# Altium footprint library UmbilicalConnectors.PcbLib: 33 footprints (part 1 of 3)
Each footprint in its own frame and in the unit in brackets; x right, y up, seen from the top. Pads: shape width x height; smd on the part's side, far side on the other; paste and mask are expansions set on the pad; w line width, h text height; cw(c..) or ccw(c..) is an arc to the next point about the centre after c.
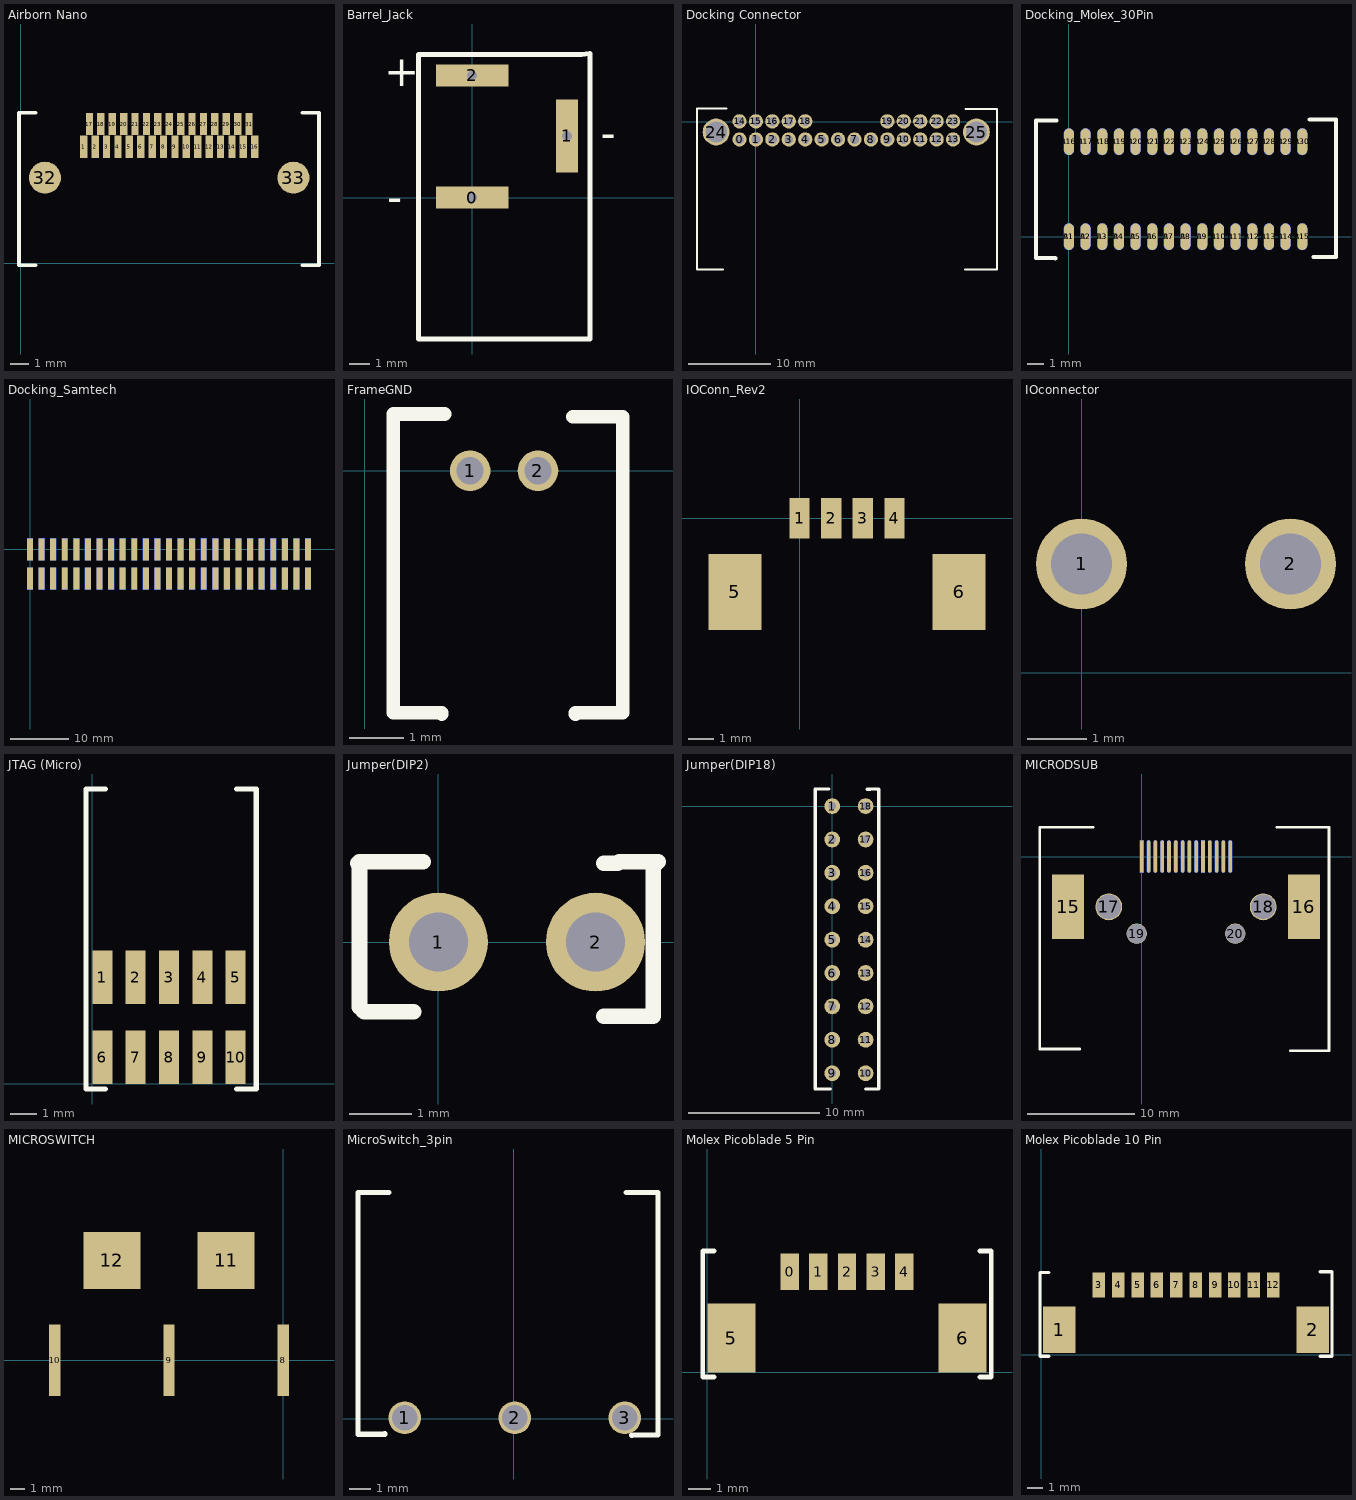
[diagram p0: the footprints below, top view; thin cyan lines are the x and y axes]

## Airborn Nano [mil] "31 Pin connector used for XACT"
height 125
pads (33):
  rect 16x49 smd: 1(138,255.5) 2(163,255.5) 3(188,255.5) 4(213,255.5) 5(238,255.5) 6(263,255.5) 7(288,255.5) 8(313,255.5) 9(338,255.5) 10(363,255.5) 11(388,255.5) 12(413,255.5) 13(438,255.5) 14(463,255.5) 15(488,255.5) 16(513,255.5) 17(150.5,305.5) 18(175.5,305.5) 19(200.5,305.5) 20(225.5,305.5) 21(250.5,305.5) 22(275.5,305.5) 23(300.5,305.5) 24(325.5,305.5) 25(350.5,305.5) 26(375.5,305.5) 27(400.5,305.5) 28(425.5,305.5) 29(450.5,305.5) 30(475.5,305.5) 31(500.5,305.5)
  round 70 smd: 32(53,188) 33(598,188)
Top Overlay:
  lines w7.87: 33,-4 -4,-4 -4,330 33,330 ; 617,-4 654,-4 654,330 617,330
3D body "nk-2d2-031-225-th00.stp": height 137.5, standoff -2.5, extent 0,0 650,326

## Barrel_Jack [mm] "KLDX-0202-B"
pads (3):
  rect 3.6x1.1 hole 0.5 square: 0(0,0) 2(0,6.05)
  rect 1.1x3.6 hole 0.5 square: 1(4.7,3.05)
Top Overlay:
  lines w0.254: -2.65,-7 -2.65,7.075 5.4,7.075 5.825,7.125 5.825,-7 -2.65,-7
  text "-" at -4.2,-0.725 h1.52
  text "-" at 6.375,2.45 h1.52
  text "+" at -4.35,5.5 h1.52

## Docking Connector [mm] "Part Number: 34826-0240"
pads (26):
  round 1.74 hole 1.08 mask+0.076: 0(-1.975,-2.175) 1(0.025,-2.175) 2(2.025,-2.175) 3(4.025,-2.175) 4(6.025,-2.175) 5(8.025,-2.175) 6(10.025,-2.175) 7(12.025,-2.175) 8(14.025,-2.175) 9(16.025,-2.175) 10(18.025,-2.175) 11(20.025,-2.175) 12(22.025,-2.175) 13(24.025,-2.175) 14(-1.975,0.025) 15(0.025,0.025) 16(2.025,0.025) 17(4.025,0.025) 18(6.025,0.025) 19(16.025,0.025) 20(18.025,0.025) 21(20.025,0.025) 22(22.025,0.025) 23(24.025,0.025)
  round 3.26 hole 2.6 mask+0.076: 24(-4.825,-1.275) 25(26.875,-1.275)
Top Overlay:
  lines w0.254: -4,-18.025 -7.15,-18.025 -7.15,1.6 -3.575,1.6 ; 25.475,-18 29.375,-18 29.375,1.525 25.55,1.525
3D body "348260240.stp": height 4.84, standoff -11.05, extent -6.217,-18 28.413,1.5

## Docking_Molex_30Pin [mm] "501571-3007"
pads (60):
  oval 0.6x1.6 smd: A1(0,0) A2(1,0) A3(2,0) A4(3,0) A5(4,0) A6(5,0) A7(6,0) A8(7,0) A9(8,0) A10(9,0) A11(10,0) A12(11,0) A13(12,0) A14(13,0) A15(14,0) A16(0,5.7) A17(1,5.7) A18(2,5.7) A19(3,5.7) A20(4,5.7) A21(5,5.7) A22(6,5.7) A23(7,5.7) A24(8,5.7) A25(9,5.7) A26(10,5.7) A27(11,5.7) A28(12,5.7) A29(13,5.7) A30(14,5.7)
  oval 0.6x1.6 smd far side: B1(0,0) B2(1,0) B3(2,0) B4(3,0) B5(4,0) B6(5,0) B7(6,0) B8(7,0) B9(8,0) B10(9,0) B11(10,0) B12(11,0) B13(12,0) B14(13,0) B15(14,0) B16(0,5.7) B17(1,5.7) B18(2,5.7) B19(3,5.7) B20(4,5.7) B21(5,5.7) B22(6,5.7) B23(7,5.7) B24(8,5.7) B25(9,5.7) B26(10,5.7) B27(11,5.7) B28(12,5.7) B29(13,5.7) B30(14,5.7)
Top Overlay:
  lines w0.254: -0.825,-1.3 -0.825,-1.27 -1.975,-1.27 -1.975,6.98 -0.75,6.98 ; 14.45,7.025 16.025,7.025 16.025,6.98 16.025,-1.225 14.675,-1.225
3D body "5015713007.stp": height 2.95, standoff -3.55, extent -1.975,-1.27 16.025,6.98

## Docking_Samtech [mm] "T2M-125-01-L-D-SM"
pads (100):
  rect 1.02x3.8 smd: A1(0,-5.07) A2(2,-5.07) A3(4,-5.07) A4(6,-5.07) A5(8,-5.07) A6(10,-5.07) A7(12,-5.07) A8(14,-5.07) A9(16,-5.07) A10(18,-5.07) A11(20,-5.07) A12(22,-5.07) A13(24,-5.07) A14(26,-5.07) A15(28,-5.07) A16(30,-5.07) A17(32,-5.07) A18(34,-5.07) A19(36,-5.07) A20(38,-5.07) A21(40,-5.07) A22(42,-5.07) A23(44,-5.07) A24(46,-5.07) A25(48,-5.07) A26(0,0) A27(2,0) A28(4,0) A29(6,0) A30(8,0) A31(10,0) A32(12,0) A33(14,0) A34(16,0) A35(18,0) A36(20,0) A37(22,0) A38(24,0) A39(26,0) A40(28,0) A41(30,0) A42(32,0) A43(34,0) A44(36,0) A45(38,0) A46(40,0) A47(42,0) A48(44,0) A49(46,0) A50(48,0)
  rect 1.02x3.8 smd far side: B1(0,-5.07) B2(2,-5.07) B3(4,-5.07) B4(6,-5.07) B5(8,-5.07) B6(10,-5.07) B7(12,-5.07) B8(14,-5.07) B9(16,-5.07) B10(18,-5.07) B11(20,-5.07) B12(22,-5.07) B13(24,-5.07) B14(26,-5.07) B15(28,-5.07) B16(30,-5.07) B17(32,-5.07) B18(34,-5.07) B19(36,-5.07) B20(38,-5.07) B21(40,-5.07) B22(42,-5.07) B23(44,-5.07) B24(46,-5.07) B25(48,-5.07) B26(0,0) B27(2,0) B28(4,0) B29(6,0) B30(8,0) B31(10,0) B32(12,0) B33(14,0) B34(16,0) B35(18,0) B36(20,0) B37(22,0) B38(24,0) B39(26,0) B40(28,0) B41(30,0) B42(32,0) B43(34,0) B44(36,0) B45(38,0) B46(40,0) B47(42,0) B48(44,0) B49(46,0) B50(48,0)

## FrameGND [mm] "Molex Picoblade Part Number: 53048-0210"
pads (2):
  round 0.75 hole 0.5: 1(1.95,0) 2(3.205,0)
Top Overlay:
  lines w0.254: 1.425,-4.5 1.425,-4.475 0.525,-4.475 0.525,1.05 1.475,1.05 ; 3.85,1 4.775,1 4.775,-4.475 3.9,-4.475 3.9,-4.5
3D body "530480210.stp": height 4.05, standoff -1.75, extent 0.525,-4.475 4.775,1.025

## IOConn_Rev2 [mm] "Molex 4 Pin Picoblade. Part # 53261-0471"
pads (6):
  rect 0.8x1.6 all layers, no hole: 1(0,0) 2(1.25,0) 3(2.5,0) 4(3.75,0)
  rect 2.1x3 all layers, no hole: 5(-2.55,-2.9) 6(6.3,-2.9)
3D body "532610471.stp": height 1.7, standoff -1.7, extent -3.225,-4.475 6.925,0.725

## IOconnector [mm] "Part Number: 172310-1102"
pads (2):
  round 1.524 hole 1.02: 1(0,1.825) 2(3.5,1.825)
via 1.75,-6.085 diameter 3.15 hole 3.05
3D body "1723101102.stp": height 10.25, standoff -5.38, extent -2.75,-8.56 6.25,3.6

## JTAG (Micro) [mil] "Compatible with the ARM Cortex-M standard pinout"
pads (10):
  rect 30x80 smd: 1(15,160) 2(65,160) 3(115,160) 4(165,160) 5(215,160) 6(15,40) 7(65,40) 8(115,40) 9(165,40) 10(215,40)
Top Overlay:
  lines w7.87: 19.68,-7.87 -9.84,-7.87 -9.84,442.91 19.68,442.91 ; 216.54,-7.87 246.06,-7.87 246.06,442.91 216.54,442.91
3D body "Samtec-FTSH-105-01-L-DH.step": height 134.5, standoff -0.5, extent -10,10 240,439

## Jumper(DIP2) [mm] "S1012E-02-ND (Pin), 3M9580-ND (Jumper)"
pads (2):
  round 1.6 hole 0.95: 1(0,0) 2(2.54,0)
Top Overlay:
  lines w0.254: -1.3,1.275 -1.275,1.3 ; -0.4,-1.125 -1.2,-1.125 -1.275,-1.05 -1.275,1.3 ; -0.25,1.3 -1.275,1.3 ; 2.675,-1.2 3.475,-1.2 3.475,1.225 3.55,1.3 2.925,1.3 2.9,1.275 2.675,1.275

## Jumper(DIP18) [mm] "S1012E-02-ND (Pin), 3M9580-ND (Jumper)"
pads (18):
  round 1.2 hole 0.6: 1(0,0) 2(0,-2.54) 3(0,-5.08) 4(0,-7.62) 5(0,-10.16) 6(0,-12.7) 7(0,-15.24) 8(0,-17.78) 9(0,-20.32) 10(2.54,-20.32) 11(2.54,-17.78) 12(2.54,-15.24) 13(2.54,-12.7) 14(2.54,-10.16) 15(2.54,-7.62) 16(2.54,-5.08) 17(2.54,-2.54) 18(2.54,0)
Top Overlay:
  lines w0.254: -0.25,1.3 -1.275,1.3 -1.3,1.275 -1.3,-21.5 -1.275,-21.525 -0.125,-21.525 ; 2.55,-21.525 3.55,-21.525 3.55,1.3 ; 2.675,1.275 2.9,1.275 2.925,1.3 3.55,1.3 ; 3.475,1.225 3.55,1.3

## MICRODSUB [mm] "12214-8250-00FR"
pads (34):
  rect 0.335x3 smd: 1(0,0) 10(5.715,0)
  rect 0.335x3 smd far side: 1(0,0) 10(5.715,0)
  oval 0.335x3 smd: 2(0.635,0) 3(1.27,0) 4(1.905,0) 5(2.54,0) 6(3.175,0) 7(3.81,0) 8(4.445,0) 9(5.08,0) 11(6.35,0) 12(6.985,0) 13(7.62,0) 14(8.255,0)
  oval 0.335x3 smd far side: 2(0.635,0) 3(1.27,0) 4(1.905,0) 5(2.54,0) 6(3.175,0) 7(3.81,0) 8(4.445,0) 9(5.08,0) 11(6.35,0) 12(6.985,0) 13(7.62,0) 14(8.255,0)
  rect 3x6 all layers, no hole mask+0.076: 15(-6.873,-4.7) 16(15.128,-4.7)
  round 2.5 hole 2.3 mask+0.076: 17(-3.073,-4.7) 18(11.328,-4.7)
  round 1.9 hole 1.8 mask+0.076: 19(-0.473,-7.2) 20(8.728,-7.2)
Top Overlay:
  lines w0.254: -5.8,-17.975 -9.525,-17.975 -9.525,2.725 -4.525,2.725 ; 12.6,2.725 17.475,2.725 17.475,-18.125 13.85,-18.125
3D body "12214-8250-00FR.stp": height 0.6, standoff -5, extent -7.625,-16.125 15.775,2.175

## MICROSWITCH [mm] "Arbitrary microswitch footprint placeholder. Must be updated with choice of microswitch"
pads (5):
  rect 0.8x5 smd: 8(0,0) 9(-8,0) 10(-16,0)
  rect 4x4 smd: 11(-4,7) 12(-12,7)

## MicroSwitch_3pin [mm] "Omron Electronics Inc-EMC Div D2FS-FL-N-A1"
pads (3):
  round 1.524 hole 1.2: 1(-5.08,0.05) 2(0.05,0.05) 3(5.18,0.05)
Top Overlay:
  lines w0.254: -6,-0.7 -6,-0.725 -7.255,-0.725 -7.255,10.55 -5.825,10.55 ; 5.25,10.55 6.725,10.55 6.725,-0.75 5.5,-0.75 5.5,-0.775
3D body "D2FS_FL_N_A1.step": height 0, standoff -8.9, extent -7.255,-0.75 6.725,10.55

## Molex Picoblade 5 Pin [mm] "Molex Picoblade Header, SMT, Right Angle  53261-0571"
height 3.4
pads (7):
  rect 0.8x1.6 smd: 0(3.6,4.4) 1(4.85,4.4) 2(6.1,4.4) 3(7.35,4.4) 4(8.6,4.4)
  rect 2.1x3 smd: 5(1.05,1.5) 6(11.15,1.5)
Top Overlay:
  lines w0.2: 0.3,-0.2 -0.2,-0.2 -0.2,5.3 0.3,5.3 ; 11.9,-0.2 12.4,-0.2 12.4,5.3 11.9,5.3
3D body "532610571.stp": height 3.4, standoff 0, extent 0.4,0 11.8,5.2

## Molex Picoblade 10 Pin [mm]
pads (12):
  rect 2.1x3 smd: 1(1.15,1.6) 2(17.5,1.6)
  rect 0.8x1.6 smd: 3(3.7,4.5) 4(4.95,4.5) 5(6.2,4.5) 6(7.45,4.5) 7(8.7,4.5) 8(9.95,4.5) 9(11.2,4.5) 10(12.45,4.5) 11(13.7,4.5) 12(14.95,4.5)
Top Overlay:
  lines w0.2: 0.5,-0.1 -0.1,-0.1 -0.1,5.3 0.5,5.3 ; 17.975,-0.1 18.75,-0.1 18.75,5.35 17.975,5.35
3D body "532611071.stp": height 3.4, standoff 0, extent 0.5,-0.2 18.15,5